# EAGLE library part ICSP-AVR (library Skoba)
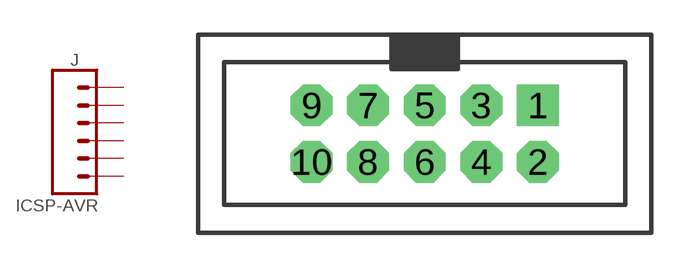
[diagram p48: symbol with the pads of 2X5-SHROUDED; footprint 2X5-SHROUDED]

Designator prefix J

## ICSP-AVR-SHROUDED (PIN1: 5v; PIN2: !RST; PIN3: SCK; PIN4: MOSI; PIN5: MISO; PIN6: GND)  [2X5-SHROUDED]
1  4  pas
2  1  pas
4  6  pas
5  2  pas
6  6  pas
7  3  pas
8  6  pas
9  5  pas
10  6  pas

## Footprint 2X5-SHROUDED (pad centres in mm)
drill 1.016 pad 1.88 square: 1 5.08,1.27
drill 1.016 pad 1.88 octagon: 2 5.08,-1.27; 3 2.54,1.27; 4 2.54,-1.27; 5 0,1.27; 6 0,-1.27; 7 -2.54,1.27; 8 -2.54,-1.27; 9 -5.08,1.27; 10 -5.08,-1.27